# Altium footprint library 1806_C.PcbLib: 1 footprints
Each footprint in its own frame and in the unit in brackets; x right, y up, seen from the top. Pads: shape width x height; smd on the part's side, far side on the other; paste and mask are expansions set on the pad; w line width, h text height; cw(c..) or ccw(c..) is an arc to the next point about the centre after c.
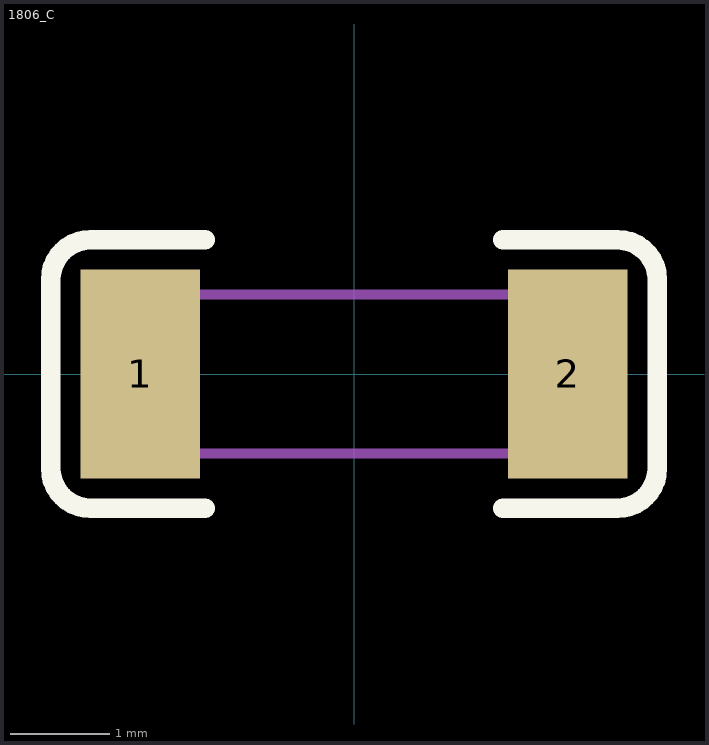
[diagram p0: the footprint, top view; thin cyan lines are the x and y axes]

## 1806_C [mm]
pads (2):
  rect 1.2x2.1 smd: 1(-2.15,0) 2(2.15,0)
Top Overlay:
  lines w0.2: -1.5,-1.35 -2.65,-1.35 cw(c-2.65,-0.95) -3.05,-0.95 -3.05,0.95 cw(c-2.65,0.95) -2.65,1.35 -1.5,1.35 ; 1.5,-1.35 2.65,-1.35 ccw(c2.65,-0.95) 3.05,-0.95 3.05,0.95 ccw(c2.65,0.95) 2.65,1.35 1.5,1.35
Mechanical 13:
  lines w0.1: -2.25,-0.8 -2.25,0.8 2.25,0.8 2.25,-0.8 -2.25,-0.8